# EAGLE library part MTFC32GAZAQHD-IT (library MTFC32GAZAQHD-IT)
eMMC eMMC 256G Source: Datasheet <https://www.farnell.com/datasheets/3542647.pdf>
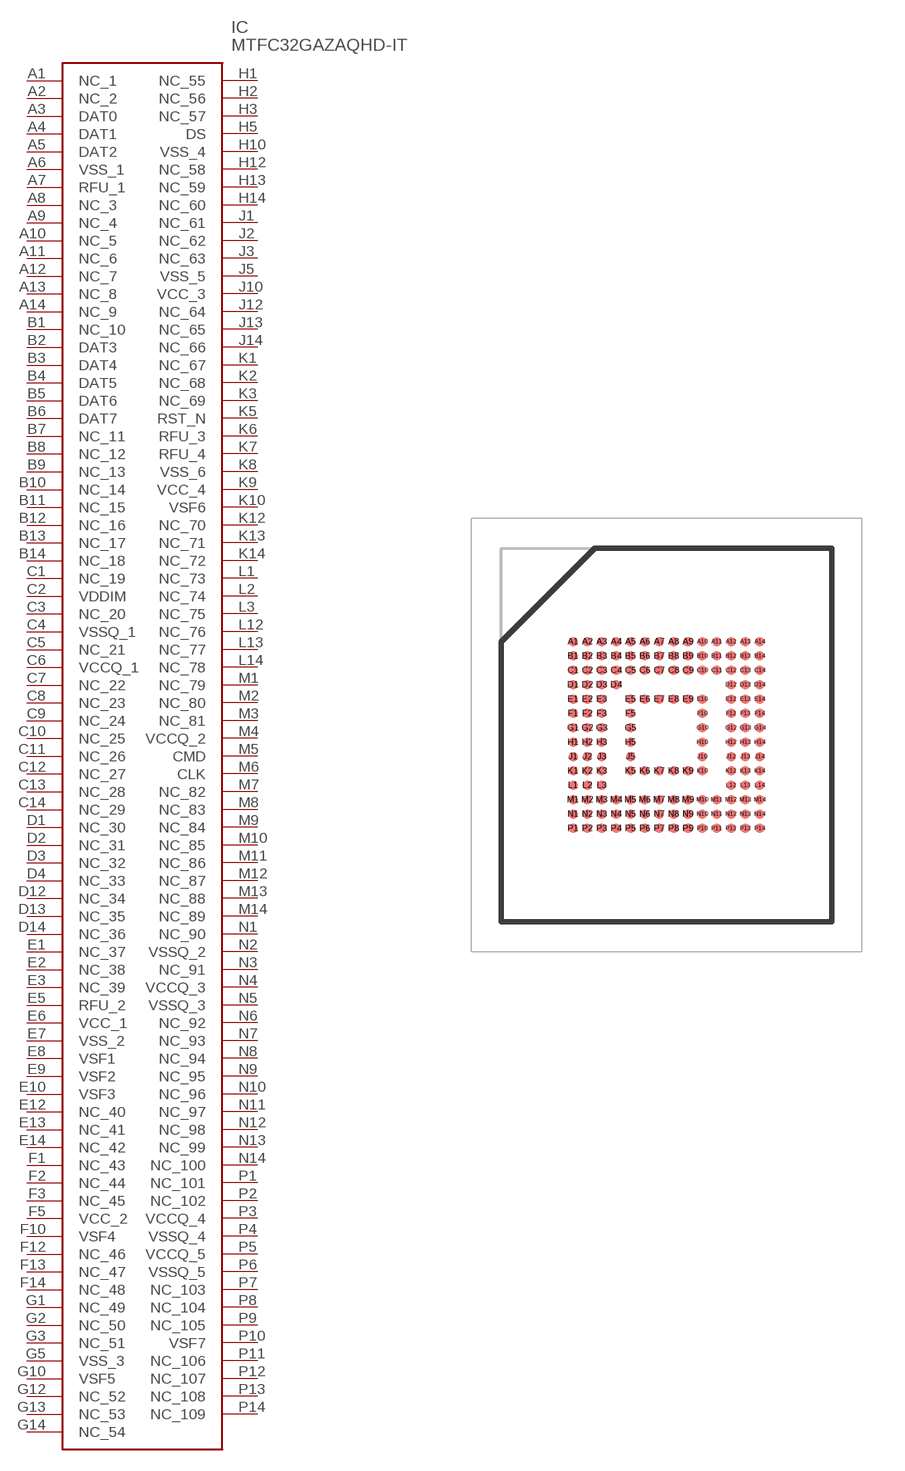
[diagram p0: symbol with the pads of BGA153C50P14X14_1150X1300X90; footprint BGA153C50P14X14_1150X1300X90]

Designator prefix IC

## MTFC32GAZAQHD-IT (Arrow_Part_Number: MTFC32GAZAQHD-IT; Arrow_Price-Stock: https://www.arrow.com/en/products/mtfc32gazaqhd-it/micron-technology?utm_currency=USD&region=nac; Description: eMMC eMMC 256G; Height: 0.9mm; Manufacturer_Name: Micron; Manufacturer_Part_Number: MTFC32GAZAQHD-IT; Mouser_Part_Number: 340-505444-TRAY; Mouser_Price-Stock: https://www.mouser.co.uk/ProductDetail/Micron/MTFC32GAZAQHD-IT?qs=KUoIvG%2F9IlZ%252Bsv3yufc3Aw%3D%3D)  [BGA153C50P14X14_1150X1300X90]
A1  NC_1
A2  NC_2
A3  DAT0
A4  DAT1
A5  DAT2
A6  VSS_1
A7  RFU_1
A8  NC_3
A9  NC_4
A10  NC_5
A11  NC_6
A12  NC_7
A13  NC_8
A14  NC_9
B1  NC_10
B2  DAT3
B3  DAT4
B4  DAT5
B5  DAT6
B6  DAT7
B7  NC_11
B8  NC_12
B9  NC_13
B10  NC_14
B11  NC_15
B12  NC_16
B13  NC_17
B14  NC_18
C1  NC_19
C2  VDDIM
C3  NC_20
C4  VSSQ_1
C5  NC_21
C6  VCCQ_1
C7  NC_22
C8  NC_23
C9  NC_24
C10  NC_25
C11  NC_26
C12  NC_27
C13  NC_28
C14  NC_29
D1  NC_30
D2  NC_31
D3  NC_32
D4  NC_33
D12  NC_34
D13  NC_35
D14  NC_36
E1  NC_37
E2  NC_38
E3  NC_39
E5  RFU_2
E6  VCC_1
E7  VSS_2
E8  VSF1
E9  VSF2
E10  VSF3
E12  NC_40
E13  NC_41
E14  NC_42
F1  NC_43
F2  NC_44
F3  NC_45
F5  VCC_2
F10  VSF4
F12  NC_46
F13  NC_47
F14  NC_48
G1  NC_49
G2  NC_50
G3  NC_51
G5  VSS_3
G10  VSF5
G12  NC_52
G13  NC_53
G14  NC_54
H1  NC_55
H2  NC_56
H3  NC_57
H5  DS
H10  VSS_4
H12  NC_58
H13  NC_59
H14  NC_60
J1  NC_61
J2  NC_62
J3  NC_63
J5  VSS_5
J10  VCC_3
J12  NC_64
J13  NC_65
J14  NC_66
K1  NC_67
K2  NC_68
K3  NC_69
K5  RST_N
K6  RFU_3
K7  RFU_4
K8  VSS_6
K9  VCC_4
K10  VSF6
K12  NC_70
K13  NC_71
K14  NC_72
L1  NC_73
L2  NC_74
L3  NC_75
L12  NC_76
L13  NC_77
L14  NC_78
M1  NC_79
M2  NC_80
M3  NC_81
M4  VCCQ_2
M5  CMD
M6  CLK
M7  NC_82
M8  NC_83
M9  NC_84
M10  NC_85
M11  NC_86
M12  NC_87
M13  NC_88
M14  NC_89
N1  NC_90
N2  VSSQ_2
N3  NC_91
N4  VCCQ_3
N5  VSSQ_3
N6  NC_92
N7  NC_93
N8  NC_94
N9  NC_95
N10  NC_96
N11  NC_97
N12  NC_98
N13  NC_99
N14  NC_100
P1  NC_101
P2  NC_102
P3  VCCQ_4
P4  VSSQ_4
P5  VCCQ_5
P6  VSSQ_5
P7  NC_103
P8  NC_104
P9  NC_105
P10  VSF7
P11  NC_106
P12  NC_107
P13  NC_108
P14  NC_109

## Footprint BGA153C50P14X14_1150X1300X90 (pad centres in mm)
MTFC32GAZAQHD-IT/
smd 0.336 x 0.336: A1 -3.25,3.25; A2 -2.75,3.25; A3 -2.25,3.25; A4 -1.75,3.25; A5 -1.25,3.25; A6 -0.75,3.25; A7 -0.25,3.25; A8 0.25,3.25; A9 0.75,3.25; A10 1.25,3.25; A11 1.75,3.25; A12 2.25,3.25; A13 2.75,3.25; A14 3.25,3.25; B1 -3.25,2.75; B2 -2.75,2.75; B3 -2.25,2.75; B4 -1.75,2.75; B5 -1.25,2.75; B6 -0.75,2.75; B7 -0.25,2.75; B8 0.25,2.75; B9 0.75,2.75; B10 1.25,2.75; B11 1.75,2.75; B12 2.25,2.75; B13 2.75,2.75; B14 3.25,2.75; C1 -3.25,2.25; C2 -2.75,2.25; C3 -2.25,2.25; C4 -1.75,2.25; C5 -1.25,2.25; C6 -0.75,2.25; C7 -0.25,2.25; C8 0.25,2.25; C9 0.75,2.25; C10 1.25,2.25; C11 1.75,2.25; C12 2.25,2.25; C13 2.75,2.25; C14 3.25,2.25; D1 -3.25,1.75; D2 -2.75,1.75; D3 -2.25,1.75; D4 -1.75,1.75; D12 2.25,1.75; D13 2.75,1.75; D14 3.25,1.75; E1 -3.25,1.25; E2 -2.75,1.25; E3 -2.25,1.25; E5 -1.25,1.25; E6 -0.75,1.25; E7 -0.25,1.25; E8 0.25,1.25; E9 0.75,1.25; E10 1.25,1.25; E12 2.25,1.25; E13 2.75,1.25; E14 3.25,1.25; F1 -3.25,0.75; F2 -2.75,0.75; F3 -2.25,0.75; F5 -1.25,0.75; F10 1.25,0.75; F12 2.25,0.75; F13 2.75,0.75; F14 3.25,0.75; G1 -3.25,0.25; G2 -2.75,0.25; G3 -2.25,0.25; G5 -1.25,0.25; G10 1.25,0.25; G12 2.25,0.25; G13 2.75,0.25; G14 3.25,0.25; H1 -3.25,-0.25; H2 -2.75,-0.25; H3 -2.25,-0.25; H5 -1.25,-0.25; H10 1.25,-0.25; H12 2.25,-0.25; H13 2.75,-0.25; H14 3.25,-0.25; J1 -3.25,-0.75; J2 -2.75,-0.75; J3 -2.25,-0.75; J5 -1.25,-0.75; J10 1.25,-0.75; J12 2.25,-0.75; J13 2.75,-0.75; J14 3.25,-0.75; K1 -3.25,-1.25; K2 -2.75,-1.25; K3 -2.25,-1.25; K5 -1.25,-1.25; K6 -0.75,-1.25; K7 -0.25,-1.25; K8 0.25,-1.25; K9 0.75,-1.25; K10 1.25,-1.25; K12 2.25,-1.25; K13 2.75,-1.25; K14 3.25,-1.25; L1 -3.25,-1.75; L2 -2.75,-1.75; L3 -2.25,-1.75; L12 2.25,-1.75; L13 2.75,-1.75; L14 3.25,-1.75; M1 -3.25,-2.25; M2 -2.75,-2.25; M3 -2.25,-2.25; M4 -1.75,-2.25; M5 -1.25,-2.25; M6 -0.75,-2.25; M7 -0.25,-2.25; M8 0.25,-2.25; M9 0.75,-2.25; M10 1.25,-2.25; M11 1.75,-2.25; M12 2.25,-2.25; M13 2.75,-2.25; M14 3.25,-2.25; N1 -3.25,-2.75; N2 -2.75,-2.75; N3 -2.25,-2.75; N4 -1.75,-2.75; N5 -1.25,-2.75; N6 -0.75,-2.75; N7 -0.25,-2.75; N8 0.25,-2.75; N9 0.75,-2.75; N10 1.25,-2.75; N11 1.75,-2.75; N12 2.25,-2.75; N13 2.75,-2.75; N14 3.25,-2.75; P1 -3.25,-3.25; P2 -2.75,-3.25; P3 -2.25,-3.25; P4 -1.75,-3.25; P5 -1.25,-3.25; P6 -0.75,-3.25; P7 -0.25,-3.25; P8 0.25,-3.25; P9 0.75,-3.25; P10 1.25,-3.25; P11 1.75,-3.25; P12 2.25,-3.25; P13 2.75,-3.25; P14 3.25,-3.25